# Altium footprint library CUBaja.PcbLib: 79 footprints (part 4 of 5)
Each footprint in its own frame and in the unit in brackets; x right, y up, seen from the top. Pads: shape width x height; smd on the part's side, far side on the other; paste and mask are expansions set on the pad; w line width, h text height; cw(c..) or ccw(c..) is an arc to the next point about the centre after c.
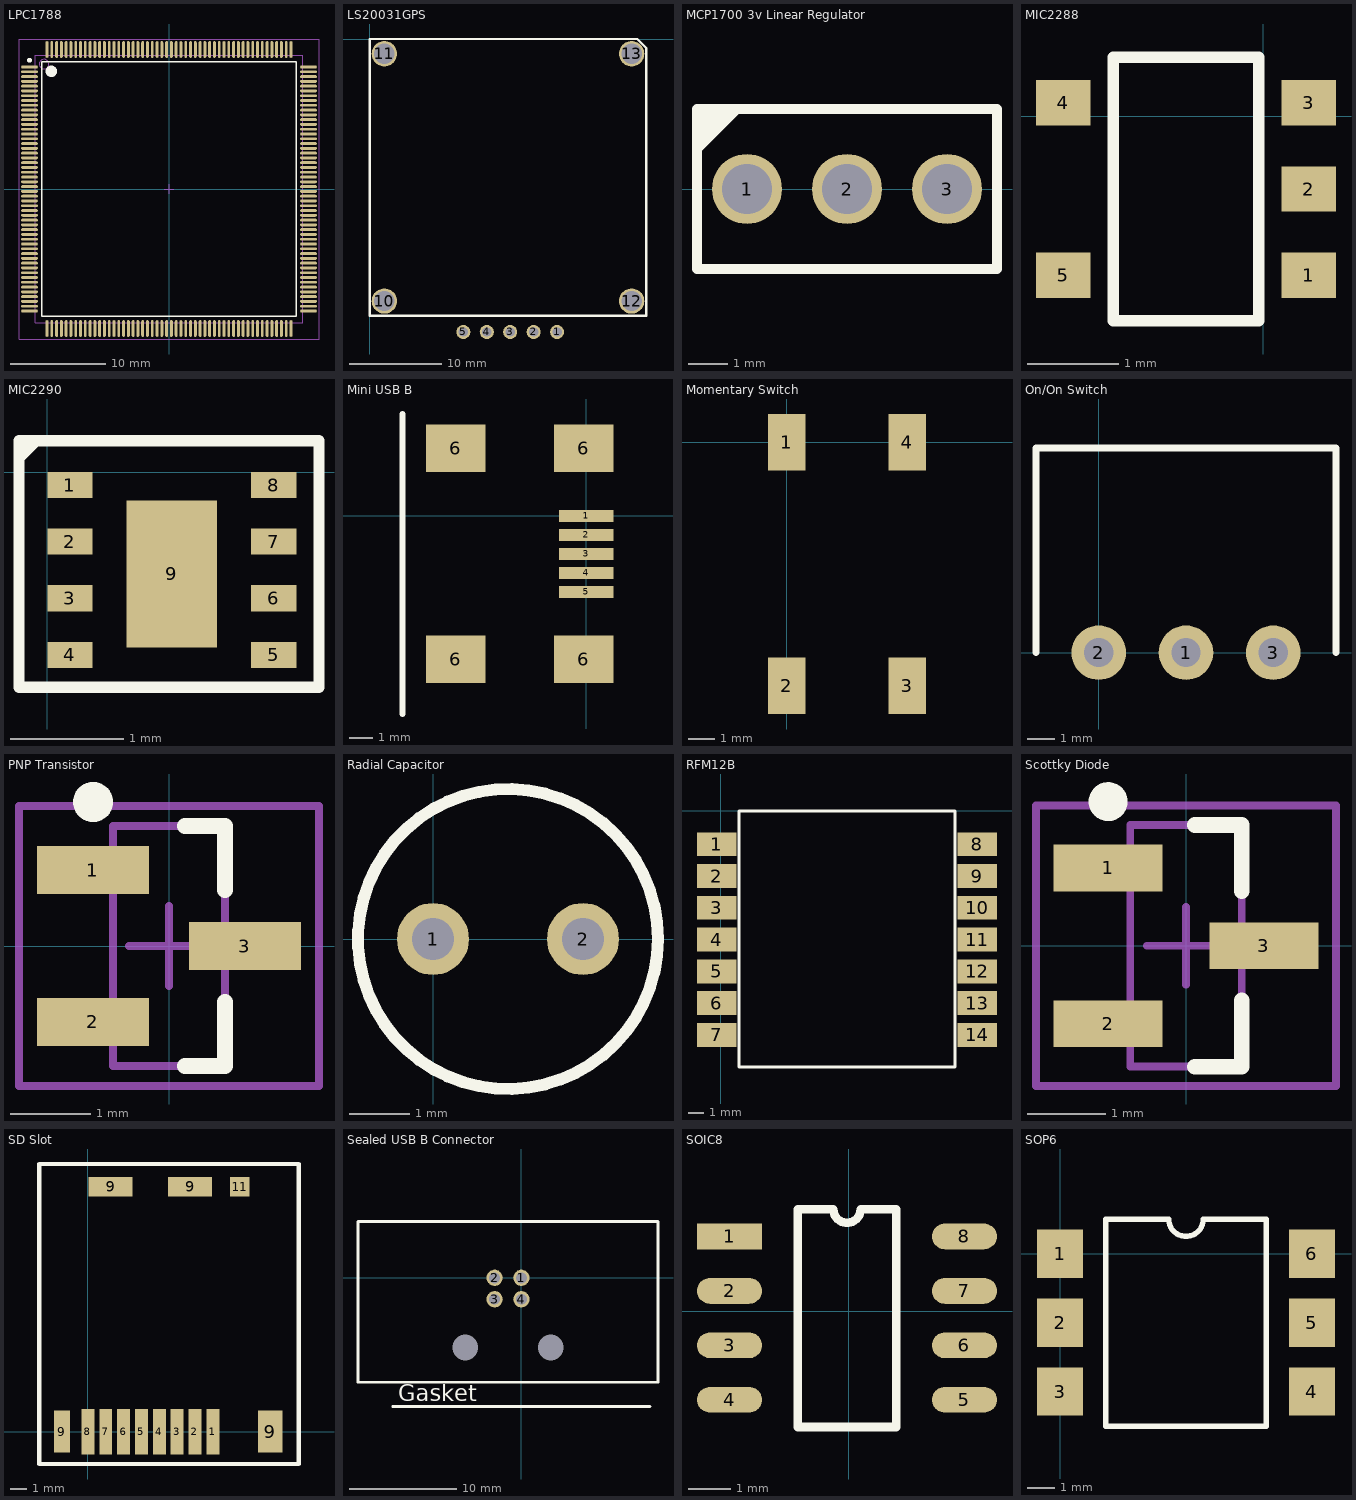
[diagram p3: the footprints below, top view; thin cyan lines are the x and y axes]

## LPC1788 [mm] "TSQFP, 208-Leads, Body 30.1x30.1mm (max), Pitch 0.50mm, IPC Medium Density"
height 1.6
pads (208):
  oval 1.75x0.3 smd: 1(-14.575,12.75) 2(-14.575,12.25) 3(-14.575,11.75) 4(-14.575,11.25) 5(-14.575,10.75) 6(-14.575,10.25) 7(-14.575,9.75) 8(-14.575,9.25) 9(-14.575,8.75) 10(-14.575,8.25) 11(-14.575,7.75) 12(-14.575,7.25) 13(-14.575,6.75) 14(-14.575,6.25) 15(-14.575,5.75) 16(-14.575,5.25) 17(-14.575,4.75) 18(-14.575,4.25) 19(-14.575,3.75) 20(-14.575,3.25) 21(-14.575,2.75) 22(-14.575,2.25) 23(-14.575,1.75) 24(-14.575,1.25) 25(-14.575,0.75) 26(-14.575,0.25) 27(-14.575,-0.25) 28(-14.575,-0.75) 29(-14.575,-1.25) 30(-14.575,-1.75) 31(-14.575,-2.25) 32(-14.575,-2.75) 33(-14.575,-3.25) 34(-14.575,-3.75) 35(-14.575,-4.25) 36(-14.575,-4.75) 37(-14.575,-5.25) 38(-14.575,-5.75) 39(-14.575,-6.25) 40(-14.575,-6.75) 41(-14.575,-7.25) 42(-14.575,-7.75) 43(-14.575,-8.25) 44(-14.575,-8.75) 45(-14.575,-9.25) 46(-14.575,-9.75) 47(-14.575,-10.25) 48(-14.575,-10.75) 49(-14.575,-11.25) 50(-14.575,-11.75) 51(-14.575,-12.25) 52(-14.575,-12.75) 105(14.575,-12.75) 106(14.575,-12.25) 107(14.575,-11.75) 108(14.575,-11.25) 109(14.575,-10.75) 110(14.575,-10.25) 111(14.575,-9.75) 112(14.575,-9.25) 113(14.575,-8.75) 114(14.575,-8.25) 115(14.575,-7.75) 116(14.575,-7.25) 117(14.575,-6.75) 118(14.575,-6.25) 119(14.575,-5.75) 120(14.575,-5.25) 121(14.575,-4.75) 122(14.575,-4.25) 123(14.575,-3.75) 124(14.575,-3.25) 125(14.575,-2.75) 126(14.575,-2.25) 127(14.575,-1.75) 128(14.575,-1.25) 129(14.575,-0.75) 130(14.575,-0.25) 131(14.575,0.25) 132(14.575,0.75) 133(14.575,1.25) 134(14.575,1.75) 135(14.575,2.25) 136(14.575,2.75) 137(14.575,3.25) 138(14.575,3.75) 139(14.575,4.25) 140(14.575,4.75) 141(14.575,5.25) 142(14.575,5.75) 143(14.575,6.25) 144(14.575,6.75) 145(14.575,7.25) 146(14.575,7.75) 147(14.575,8.25) 148(14.575,8.75) 149(14.575,9.25) 150(14.575,9.75) 151(14.575,10.25) 152(14.575,10.75) 153(14.575,11.25) 154(14.575,11.75) 155(14.575,12.25) 156(14.575,12.75)
  oval 0.3x1.75 smd: 53(-12.75,-14.575) 54(-12.25,-14.575) 55(-11.75,-14.575) 56(-11.25,-14.575) 57(-10.75,-14.575) 58(-10.25,-14.575) 59(-9.75,-14.575) 60(-9.25,-14.575) 61(-8.75,-14.575) 62(-8.25,-14.575) 63(-7.75,-14.575) 64(-7.25,-14.575) 65(-6.75,-14.575) 66(-6.25,-14.575) 67(-5.75,-14.575) 68(-5.25,-14.575) 69(-4.75,-14.575) 70(-4.25,-14.575) 71(-3.75,-14.575) 72(-3.25,-14.575) 73(-2.75,-14.575) 74(-2.25,-14.575) 75(-1.75,-14.575) 76(-1.25,-14.575) 77(-0.75,-14.575) 78(-0.25,-14.575) 79(0.25,-14.575) 80(0.75,-14.575) 81(1.25,-14.575) 82(1.75,-14.575) 83(2.25,-14.575) 84(2.75,-14.575) 85(3.25,-14.575) 86(3.75,-14.575) 87(4.25,-14.575) 88(4.75,-14.575) 89(5.25,-14.575) 90(5.75,-14.575) 91(6.25,-14.575) 92(6.75,-14.575) 93(7.25,-14.575) 94(7.75,-14.575) 95(8.25,-14.575) 96(8.75,-14.575) 97(9.25,-14.575) 98(9.75,-14.575) 99(10.25,-14.575) 100(10.75,-14.575) 101(11.25,-14.575) 102(11.75,-14.575) 103(12.25,-14.575) 104(12.75,-14.575) 157(12.75,14.575) 158(12.25,14.575) 159(11.75,14.575) 160(11.25,14.575) 161(10.75,14.575) 162(10.25,14.575) 163(9.75,14.575) 164(9.25,14.575) 165(8.75,14.575) 166(8.25,14.575) 167(7.75,14.575) 168(7.25,14.575) 169(6.75,14.575) 170(6.25,14.575) 171(5.75,14.575) 172(5.25,14.575) 173(4.75,14.575) 174(4.25,14.575) 175(3.75,14.575) 176(3.25,14.575) 177(2.75,14.575) 178(2.25,14.575) 179(1.75,14.575) 180(1.25,14.575) 181(0.75,14.575) 182(0.25,14.575) 183(-0.25,14.575) 184(-0.75,14.575) 185(-1.25,14.575) 186(-1.75,14.575) 187(-2.25,14.575) 188(-2.75,14.575) 189(-3.25,14.575) 190(-3.75,14.575) 191(-4.25,14.575) 192(-4.75,14.575) 193(-5.25,14.575) 194(-5.75,14.575) 195(-6.25,14.575) 196(-6.75,14.575) 197(-7.25,14.575) 198(-7.75,14.575) 199(-8.25,14.575) 200(-8.75,14.575) 201(-9.25,14.575) 202(-9.75,14.575) 203(-10.25,14.575) 204(-10.75,14.575) 205(-11.25,14.575) 206(-11.75,14.575) 207(-12.25,14.575) 208(-12.75,14.575)
Top Overlay:
  circle w0.25: c-14.575,13.45 r0.125
  circle w0.6: c-12.3,12.3 r0.3
  lines w0.2: -13.3,-13.3 -13.3,13.3 13.3,13.3 13.3,-13.3 -13.3,-13.3
Mechanical 13:
  circle w0.1: c-13.05,13.05 r0.5
  lines w0.1: -14,-14 -14,14 14,14 14,-14 -14,-14
Mechanical 15:
  lines w0.1: -0.5,0 0.5,0 ; 0,-0.5 0,0.5 ; -15.675,-15.675 -15.675,15.675 15.675,15.675 15.675,-15.675 -15.675,-15.675
3D body: height 1.6, standoff 0.15, extent -14,-14 14,14

## LS20031GPS [mm] "LS20031 GPS module"
height 7
pads (9):
  round 1.524 hole 1.016: 1(20.32,-31.75) 2(17.78,-31.75) 3(15.24,-31.75) 4(12.7,-31.75) 5(10.16,-31.75)
  round 2.75 hole 2.2: 10(1.6,-28.4) 11(1.6,-1.6) 12(28.4,-28.4) 13(28.4,-1.6)
Top Overlay:
  lines w0.254: 0,-30 0,0 29,0 30,-1 30,-30 0,-30

## MCP1700 3v Linear Regulator [mil] "Linear Regulator, pins must be bent out to fit this footprint"
height 300
pads (3):
  round 70 hole 50: 1(100,0) 2(200,0) 3(300,0)
Top Overlay:
  lines w10: 50,40 70,60 60,70 ; 50,50 60,50 90,80 80,80 60,60 50,60 60,70 ; 60,70 50,70 60,80 70,70 60,70 ; 50,-80 50,80 290,80 350,80 350,-80 50,-80

## MIC2288 [mm]
pads (5):
  rect 0.6x0.5 smd: 1(0.5,-1.75) 2(0.5,-0.8) 3(0.5,0.15) 4(-2.2,0.15) 5(-2.2,-1.75)
Top Overlay:
  lines w0.125: -1.65,-2.25 -0.05,-2.25 -0.05,0.65 -1.65,0.65 -1.65,-2.25

## MIC2290 [mm]
pads (9):
  rect 0.4x0.23 smd: 1(0.2,-0.115) 2(0.2,-0.615) 3(0.2,-1.115) 4(0.2,-1.615) 5(2,-1.615) 6(2,-1.115) 7(2,-0.615) 8(2,-0.115)
  rect 0.8x1.3 smd: 9(1.1,-0.9)
Top Overlay:
  lines w0.1: -0.25,0.125 -0.1,0.275 ; -0.25,-1.9 -0.25,0.275 2.4,0.275 2.4,-1.9 -0.25,-1.9

## Mini USB B [mm]
height 4
pads (11):
  rect 2.3x0.5 smd: 1(0,0) 2(0,-0.8) 3(0,-1.6) 4(0,-2.4) 5(0,-3.2)
  rect 2.5x2 smd: 6(-5.5,-6.05) 6(-5.5,2.85) 6(-0.1,-6.05) 6(-0.1,2.85)
  round 0.9 on Drill Guide: 10(-2.5,0.6) 11(-2.5,-3.8)
Top Overlay:
  lines w0.254: -7.75,-8.35 -7.75,-2.525 -7.75,4.3

## Momentary Switch [mm]
height 7
pads (4):
  rect 1.4x2.1 smd: 1(0,0) 2(0,-9.1) 3(4.5,-9.1) 4(4.5,0)

## On/On Switch [mm]
pads (3):
  round 2 hole 1.07: 1(3.2,0) 2(0,0) 3(6.4,0)
Top Overlay:
  lines w0.254: -2.3,0 -2.3,7.5 -0.9,7.5 ; -1.5,7.5 8,7.5 ; 7.5,7.5 8.7,7.5 8.7,0

## PNP Transistor [mm] "SOT23, 3-Leads, Body 3.0x2.5mm (max), Pitch 0.95mm, IPC Medium Density"
height 1.1
pads (3):
  rect 1.4x0.6 smd: 1(-0.95,0.95) 2(-0.95,-0.95) 3(0.95,0)
Top Overlay:
  circle w0.25: c-0.95,1.8 r0.125
  lines w0.2: 0.2,-1.5 0.7,-1.5 0.7,-0.7 ; 0.2,1.5 0.7,1.5 0.7,0.7
Mechanical 13:
  lines w0.1: -0.7,-1.5 -0.7,1.5 0.7,1.5 0.7,-1.5 -0.7,-1.5
Mechanical 15:
  lines w0.1: -0.5,0 0.5,0 ; 0,-0.5 0,0.5 ; -1.875,-1.75 -1.875,1.75 1.875,1.75 1.875,-1.75 -1.875,-1.75
3D body: height 1.1, standoff 0.05, extent -0.7,-1.5 0.7,1.5

## Radial Capacitor [mm]
pads (2):
  round 1.2 hole 0.7: 1(0,0) 2(2.5,0)
Top Overlay:
  circle w0.2: c1.25,0 r2.5

## RFM12B [mm]
pads (14):
  rect 2.5x1.5 smd: 1(-0.254,-2.1) 2(-0.254,-4.1) 3(-0.254,-6.1) 4(-0.254,-8.1) 5(-0.254,-10.1) 6(-0.254,-12.1) 7(-0.254,-14.1) 8(16.129,-2.1) 9(16.129,-4.1) 10(16.129,-6.1) 11(16.129,-8.1) 12(16.129,-10.1) 13(16.129,-12.1) 14(16.129,-14.1)
Top Overlay:
  lines w0.178: 14.732,-16.129 1.143,-16.129 1.143,0 14.732,0 14.732,-16.1

## Scottky Diode [mm] "SOT23, 3-Leads, Body 3.1x2.6mm (max), Pitch 1.00mm, IPC Medium Density"
height 1.15
pads (3):
  rect 1.4x0.6 smd: 1(-1,1) 2(-1,-1) 3(1,0)
Top Overlay:
  circle w0.25: c-1,1.85 r0.125
  lines w0.2: 0.115,-1.55 0.715,-1.55 0.715,-0.7 ; 0.115,1.55 0.715,1.55 0.715,0.7
Mechanical 13:
  lines w0.1: -0.715,-1.55 0.715,-1.55 0.715,1.55 -0.715,1.55 -0.715,-1.55
Mechanical 15:
  lines w0.1: -0.5,0 0.5,0 ; 0,-0.5 0,0.5 ; -1.925,-1.8 1.925,-1.8 1.925,1.8 -1.925,1.8 -1.925,-1.8
3D body: height 1.15, standoff 0, extent -0.715,-1.55 0.715,1.55

## SD Slot [mm]
height 2
pads (13):
  rect 0.8x2.8 smd: 1(7.7,0) 2(6.6,0) 3(5.5,0) 4(4.4,0) 5(3.3,0) 6(2.2,0) 7(1.1,0) 8(0,0)
  rect 1x2.6 smd: 9(-1.6,0)
  rect 2.7x1.2 smd: 9(1.4,15.1) 9(6.3,15.1)
  rect 1.5x2.6 smd: 9(11.25,0)
  rect 1.2x1.2 smd: 11(9.35,15.1)
Top Overlay:
  lines w0.254: -3,-2 -3,16.5 13,16.5 13,-2 -3,-2

## Sealed USB B Connector [mil] "P-MUSB-D111-XX_B"
pads (6):
  round 60 hole 40: 1(0,0) 2(-98.43,0) 3(-98.43,-78.74) 4(0,-78.74)
  round 0 hole 94.49: ""(-206.69,-255.91) ""(108.27,-255.91)
Top Overlay:
  lines w10: -472.44,-472.44 472.44,-472.44 ; -600.39,-383.86 -600.39,206.69 501.97,206.69 501.97,-383.86 -600.39,-383.86
  text "Gasket" at -452.76,-452.76 h60

## SOIC8 [mm]
pads (8):
  rect 1.52x0.6 smd: 1(-2.782,1.742)
  oval 1.52x0.6 smd: 2(-2.782,0.472) 3(-2.782,-0.798) 4(-2.782,-2.068) 5(2.698,-2.068) 6(2.698,-0.798) 7(2.698,0.472) 8(2.698,1.742)
Top Overlay:
  lines w0.2: -1.187,-2.703 -1.187,2.377 -0.36,2.377 ccw(c-0.042,2.377) 0.275,2.377 1.103,2.377 1.103,-2.703 -1.187,-2.703

## SOP6 [mm]
pads (6):
  rect 1.7x1.78 smd: 1(0,0) 2(0,-2.54) 3(0,-5.08) 4(9.27,-5.08) 5(9.27,-2.54) 6(9.27,0)
Top Overlay:
  lines w0.2: 1.685,-6.35 1.685,1.27 4,1.27 ccw(c4.635,1.27) 5.27,1.27 7.585,1.27 7.585,-6.35 1.685,-6.35